# Altium footprint library RobotPcb.PcbLib: 9 footprints
Each footprint in its own frame and in the unit in brackets; x right, y up, seen from the top. Pads: shape width x height; smd on the part's side, far side on the other; paste and mask are expansions set on the pad; w line width, h text height; cw(c..) or ccw(c..) is an arc to the next point about the centre after c.
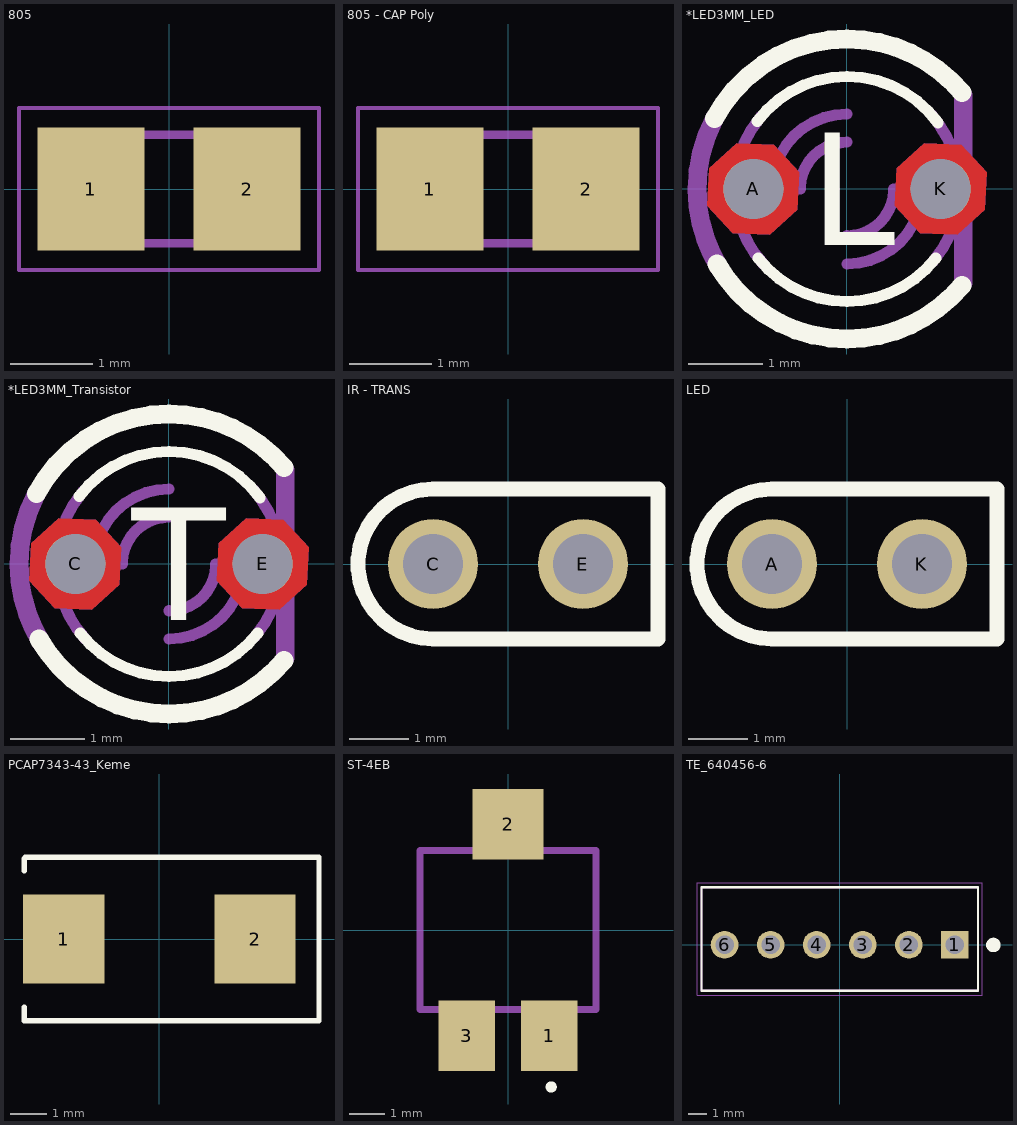
[diagram p0: the footprints below, top view; thin cyan lines are the x and y axes]

## 805 [mm] "805 package"
pads (2):
  rect 1.3x1.5 smd: 1(-0.95,0) 2(0.95,0)
Mechanical 4:
  region: -1.094,0.726 -0.342,0.726 -0.342,-0.725 -1.094,-0.725
  region: 0.356,0.726 1.106,0.726 1.106,-0.724 0.356,-0.724
  region: -1.094,0.726 -0.342,0.726 -0.342,-0.725 -1.094,-0.725
  region: 0.356,0.726 1.106,0.726 1.106,-0.724 0.356,-0.724
  lines w0.102: -0.381,0.66 0.381,0.66 -0.381,0.66 ; -0.356,-0.66 0.381,-0.66 -0.356,-0.66
Mechanical 16:
  lines w0.051: -1.823,-0.983 1.823,-0.983 1.823,0.983 -1.823,0.983 -1.823,-0.983

## 805 - CAP Poly [mm] "805 package"
pads (2):
  rect 1.3x1.5 smd: 1(-0.95,0) 2(0.95,0)
Mechanical 4:
  region: -1.094,0.726 -0.342,0.726 -0.342,-0.725 -1.094,-0.725
  region: 0.356,0.726 1.106,0.726 1.106,-0.724 0.356,-0.724
  region: -1.094,0.726 -0.342,0.726 -0.342,-0.725 -1.094,-0.725
  region: 0.356,0.726 1.106,0.726 1.106,-0.724 0.356,-0.724
  lines w0.102: -0.381,0.66 0.381,0.66 -0.381,0.66 ; -0.356,-0.66 0.381,-0.66 -0.356,-0.66
Mechanical 16:
  lines w0.051: -1.823,-0.983 1.823,-0.983 1.823,0.983 -1.823,0.983 -1.823,-0.983

## *LED3MM_LED [mil]
pads (2):
  round 32 hole 32: A(-50,0) K(50,0)
Top Layer:
  region: 74.43,8.89 60.99,23.56 41.11,24.43 26.44,10.99 25.57,-8.89 39.01,-23.56 58.89,-24.43 73.56,-10.99
  region: -25.57,8.89 -39.01,23.56 -58.89,24.43 -73.56,10.99 -74.43,-8.89 -60.99,-23.56 -41.11,-24.43 -26.44,-10.99
Bottom Layer:
  region: 74.43,8.89 60.99,23.56 41.11,24.43 26.44,10.99 25.57,-8.89 39.01,-23.56 58.89,-24.43 73.56,-10.99
  region: -25.57,8.89 -39.01,23.56 -58.89,24.43 -73.56,10.99 -74.43,-8.89 -60.99,-23.56 -41.11,-24.43 -26.44,-10.99
Top Overlay:
  lines w6: -47.92,36.11 cw(c0,0) 0,60 cw(c0,0) 48.54,35.27 ; -47.28,-36.94 ccw(c0,0) 0,-60 ccw(c0,0) 47.28,-36.94
  lines w10: -70.63,37.56 cw(c0,0) 0,80 cw(c0,0) 61.28,51.42 ; -69.28,-40 ccw(c0,0) 0,-80 ccw(c0,0) 61.29,-51.42
  text "L" at -20,-30 h60
Mechanical 4:
  lines w6: -60,0 ccw(c0,0) -44.59,-40.15 cw(c0,0) -60,0 ; -60,0 cw(c0,0) -45.96,38.57 ccw(c0,0) -60,0 ; 60,0 cw(c0,0) 45.96,-38.57 ccw(c0,0) 60,0 ; 60,0 ccw(c0,0) 45.28,39.36 cw(c0,0) 60,0 ; -40,0 cw(c0,0) 0,40 ccw(c0,0) -40,0 ; -25,0 cw(c0,0) 0,25 ccw(c0,0) -25,0 ; 0,-40 ccw(c0,0) 40,0 cw(c0,0) 0,-40 ; 0,-25 ccw(c0,0) 25,0 cw(c0,0) 0,-25
  lines w10: -80,0 ccw(c0,0) -67.84,-42.4 cw(c0,0) -80,0 ; -80,0 cw(c0,0) -70.64,37.56 ccw(c0,0) -80,0 ; 62,-50 62,50 62,-50
Multi-Layer:
  region: 74.43,8.89 60.99,23.56 41.11,24.43 26.44,10.99 25.57,-8.89 39.01,-23.56 58.89,-24.43 73.56,-10.99
  region: -25.57,8.89 -39.01,23.56 -58.89,24.43 -73.56,10.99 -74.43,-8.89 -60.99,-23.56 -41.11,-24.43 -26.44,-10.99

## *LED3MM_Transistor [mil]
pads (2):
  round 32 hole 32: C(-50,0) E(50,0)
Top Layer:
  region: -25.57,8.89 -39.01,23.56 -58.89,24.43 -73.56,10.99 -74.43,-8.89 -60.99,-23.56 -41.11,-24.43 -26.44,-10.99
  region: 74.43,8.89 60.99,23.56 41.11,24.43 26.44,10.99 25.57,-8.89 39.01,-23.56 58.89,-24.43 73.56,-10.99
Bottom Layer:
  region: -25.57,8.89 -39.01,23.56 -58.89,24.43 -73.56,10.99 -74.43,-8.89 -60.99,-23.56 -41.11,-24.43 -26.44,-10.99
  region: 74.43,8.89 60.99,23.56 41.11,24.43 26.44,10.99 25.57,-8.89 39.01,-23.56 58.89,-24.43 73.56,-10.99
Top Overlay:
  lines w6: -47.92,36.11 cw(c0,0) 0,60 cw(c0,0) 48.54,35.27 ; -47.28,-36.94 ccw(c0,0) 0,-60 ccw(c0,0) 47.28,-36.94
  lines w10: -70.63,37.56 cw(c0,0) 0,80 cw(c0,0) 61.28,51.42 ; -69.28,-40 ccw(c0,0) 0,-80 ccw(c0,0) 61.29,-51.42
  text "T" at -20,-30 h60
Mechanical 4:
  lines w6: -60,0 cw(c0,0) -45.96,38.57 ccw(c0,0) -60,0 ; -60,0 ccw(c0,0) -44.59,-40.15 cw(c0,0) -60,0 ; 60,0 ccw(c0,0) 45.28,39.36 cw(c0,0) 60,0 ; 60,0 cw(c0,0) 45.96,-38.57 ccw(c0,0) 60,0 ; -40,0 cw(c0,0) 0,40 ccw(c0,0) -40,0 ; -25,0 cw(c0,0) 0,25 ccw(c0,0) -25,0 ; 0,-40 ccw(c0,0) 40,0 cw(c0,0) 0,-40 ; 0,-25 ccw(c0,0) 25,0 cw(c0,0) 0,-25
  lines w10: -80,0 cw(c0,0) -70.64,37.56 ccw(c0,0) -80,0 ; -80,0 ccw(c0,0) -67.84,-42.4 cw(c0,0) -80,0 ; 62,-50 62,50 62,-50
Multi-Layer:
  region: -25.57,8.89 -39.01,23.56 -58.89,24.43 -73.56,10.99 -74.43,-8.89 -60.99,-23.56 -41.11,-24.43 -26.44,-10.99
  region: 74.43,8.89 60.99,23.56 41.11,24.43 26.44,10.99 25.57,-8.89 39.01,-23.56 58.89,-24.43 73.56,-10.99

## IR - TRANS [mil] "LED placement"
pads (2):
  round 60 hole 40: C(-50,0) E(50,0)
Top Overlay:
  lines w10: -50,-50 cw(c-50,0) -50,50 100,50 100,-50 -50,-50

## LED [mil] "LED placement"
pads (2):
  round 60 hole 40: A(-50,0) K(50,0)
Top Overlay:
  lines w10: -50,-50 cw(c-50,0) -50,50 100,50 100,-50 -50,-50

## PCAP7343-43_Keme [mil]
pads (2):
  rect 89x98 smd paste+0 mask+0: 1(-105,0) 2(105,0)
Top Overlay:
  lines w6: -148.5,-75 -148.5,-89.5 175,-89.5 175,89.5 -146.9,89.5 -148.5,87.9 -148.5,75

## ST-4EB [mm]
pads (3):
  rect 1.6x2 smd: 1(1.175,-3) 3(-1.175,-3)
  rect 2x2 smd: 2(0,3)
Top Overlay:
  circle w0.2: c1.224,-4.449 r0.059
Mechanical 2:
  lines w0.2: -2.5,-2.25 -2.5,2.25 -1.3,2.25 ; 1.3,2.25 2.5,2.25 2.5,-2.25
Mechanical 8:
  lines w0.2: -2.5,-2.25 2.5,-2.25 2.5,2.25 -2.5,2.25 -2.5,-2.25

## TE_640456-6 [mil]
pads (6):
  rect 60x60 hole 40: 1(250,0)
  round 60 hole 40: 2(150,0) 3(50,0) 4(-50,0) 5(-150,0) 6(-250,0)
Top Overlay:
  circle w15.75: c333.56,-0.5 r7.87
  lines w5: -300,-100 -300,125 300,125 300,-100 -300,-100
Mechanical 4:
  circle w15.75: c250,0 r7.87
  circle w15.75: c250,0 r7.87
  lines w5: -300,-100 -300,125 ; -300,-100 300,-100 ; -300,-100 -300,125 ; -300,-100 300,-100 ; -300,125 300,125 ; -300,125 300,125 ; 300,-100 300,125 ; 300,-100 300,125
Mechanical 16:
  lines w1.97: -309.84,-109.84 -309.84,134.84 309.84,134.84 309.84,-109.84 -309.84,-109.84